# EAGLE library part AM7969D (library my_mixed)
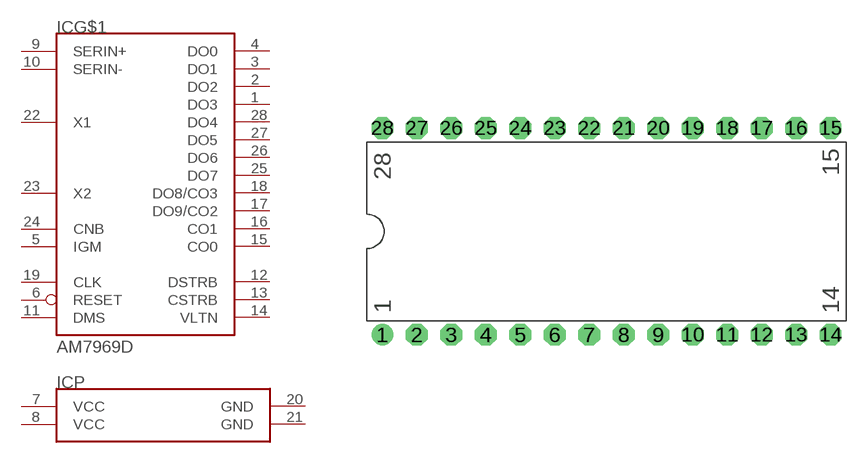
[diagram p29: symbol with the pads of DIP28-6; footprint DIP28-6]

Designator prefix IC; gates G$1=AM7969 P=AM7969DP

## AM7969D  [DIP28-6]
1  G$1:DO3  out
2  G$1:DO2  out
3  G$1:DO1  out
4  G$1:DO0  out
5  G$1:IGM  out
6  G$1:RESET  in
7  P:VCC  pwr
8  P:VCC  pwr
9  G$1:SERIN+  in
10  G$1:SERIN-  in
11  G$1:DMS  in
12  G$1:DSTRB  out
13  G$1:CSTRB  out
14  G$1:VLTN  out
15  G$1:CO0  out
16  G$1:CO1  out
17  G$1:DO9/CO2  out
18  G$1:DO8/CO3  out
19  G$1:CLK  out
20  P:GND  pwr
21  P:GND  pwr
22  G$1:X1  in
23  G$1:X2  in
24  G$1:CNB  in
25  G$1:DO7  out
26  G$1:DO6  out
27  G$1:DO5  out
28  G$1:DO4  out

## Footprint DIP28-6 (pad centres in mm)
drill 0.406 pad 1.6: 1 -16.51,-7.62
drill 0.406 pad 1.6 octagon: 2 -13.97,-7.62; 3 -11.43,-7.62; 4 -8.89,-7.62; 5 -6.35,-7.62; 6 -3.81,-7.62; 7 -1.27,-7.62; 8 1.27,-7.62; 9 3.81,-7.62; 10 6.35,-7.62; 11 8.89,-7.62; 12 11.43,-7.62; 13 13.97,-7.62; 14 16.51,-7.62; 15 16.51,7.62; 16 13.97,7.62; 17 11.43,7.62; 18 8.89,7.62; 19 6.35,7.62; 20 3.81,7.62; 21 1.27,7.62; 22 -1.27,7.62; 23 -3.81,7.62; 24 -6.35,7.62; 25 -8.89,7.62; 26 -11.43,7.62; 27 -13.97,7.62; 28 -16.51,7.62